# Altium footprint library 2EDGVC-5.0-03P-14-00A(H).PcbLib: 1 footprints
Each footprint in its own frame and in the unit in brackets; x right, y up, seen from the top. Pads: shape width x height; smd on the part's side, far side on the other; paste and mask are expansions set on the pad; w line width, h text height; cw(c..) or ccw(c..) is an arc to the next point about the centre after c.
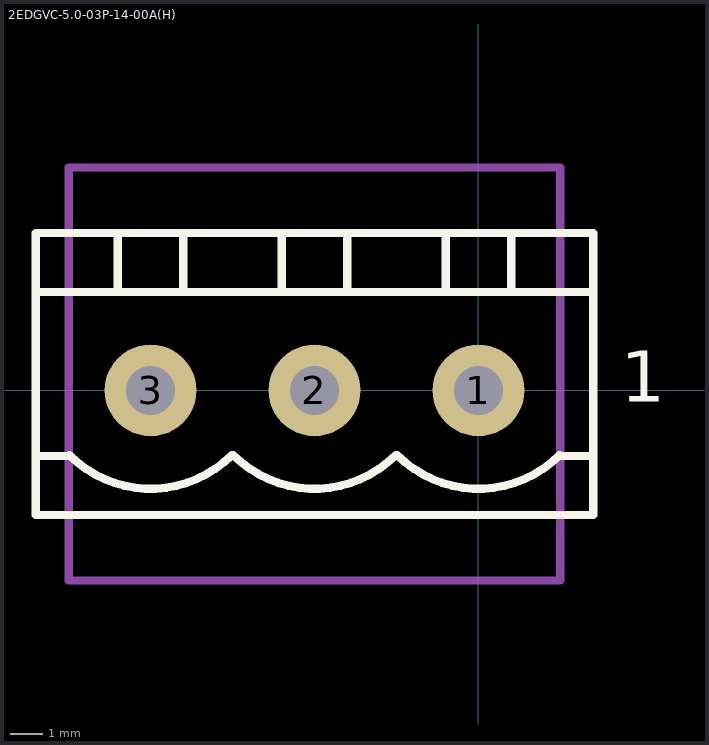
[diagram p0: the footprint, top view; thin cyan lines are the x and y axes]

## 2EDGVC-5.0-03P-14-00A(H) [mm]
pads (3):
  round 2.8 hole 1.5: 1(0,0) 2(-5,0) 3(-10,0)
Top Overlay:
  lines w0.254: -13.5,-2 -12.5,-2 ; -13.5,3 3.5,3 ; -12.475,-1.975 ccw(c-10,0.5) -7.525,-1.975 ; -11,3 -11,4.8 ; -9,3 -9,4.8 ; -7.475,-1.975 ccw(c-5,0.5) -2.525,-1.975 ; -6,3 -6,4.8 ; -4,3 -4,4.8 ; -2.475,-1.975 ccw(c0,0.5) 2.475,-1.975 ; -1,3 -1,4.8 ; 1,3 1,4.8 ; 2.5,-2 3.5,-2 ; -13.5,-3.8 -13.5,4.8 3.5,4.8 3.5,-3.8 -13.5,-3.8
  text "1" at 4.347,-0.352 h1.56
Mechanical 1:
  lines w0.254: -12.5,-5.8 -12.5,6.8 2.5,6.8 2.5,-5.8 -12.5,-5.8
3D body "step_temp.STEP": height 12.15, standoff -3.9, extent -13.453,-3.904 3.547,4.666